# EAGLE library part OPA858 (library meng)
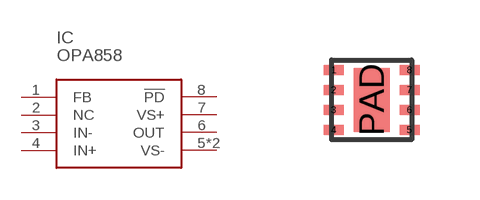
[diagram p24: symbol with the pads of WSON8; footprint WSON8]

Designator prefix IC

## OPA858 (VALUE: OPA858)  [WSON8]
1  FB
2  NC
3  IN-
4  IN+
5  VS-
6  OUT
7  VS+
8  !PD
PAD  VS-

## Footprint WSON8 (pad centres in mm)
smd 0.5 x 0.25: 1 -0.95,0.75; 2 -0.95,0.25; 3 -0.95,-0.25; 4 -0.95,-0.75; 5 0.95,-0.75; 6 0.95,-0.25; 7 0.95,0.25; 8 0.95,0.75
smd 0.9 x 1.6: PAD 0,0